# Altium footprint library SOIC127P940X597-16N.PcbLib: 1 footprints
Each footprint in its own frame and in the unit in brackets; x right, y up, seen from the top. Pads: shape width x height; smd on the part's side, far side on the other; paste and mask are expansions set on the pad; w line width, h text height; cw(c..) or ccw(c..) is an arc to the next point about the centre after c.
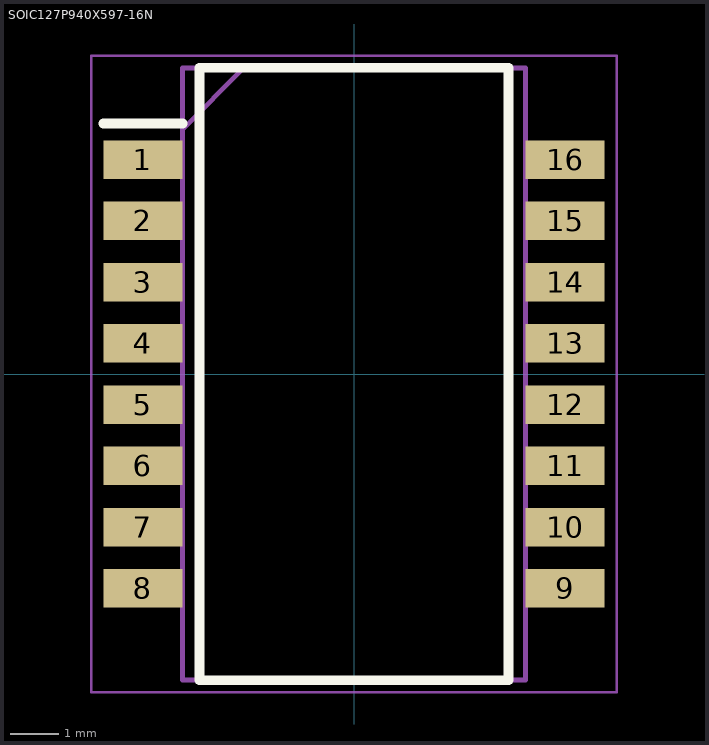
[diagram p0: the footprint, top view; thin cyan lines are the x and y axes]

## SOIC127P940X597-16N [mm]
pads (16):
  rect 1.645x0.8 smd: 1(-4.378,4.445) 2(-4.378,3.175) 3(-4.378,1.905) 4(-4.378,0.635) 5(-4.378,-0.635) 6(-4.378,-1.905) 7(-4.378,-3.175) 8(-4.378,-4.445) 9(4.378,-4.445) 10(4.378,-3.175) 11(4.378,-1.905) 12(4.378,-0.635) 13(4.378,0.635) 14(4.378,1.905) 15(4.378,3.175) 16(4.378,4.445)
Top Overlay:
  lines w0.2: -5.2,5.195 -3.555,5.195 ; -3.205,-6.35 3.205,-6.35 3.205,6.35 -3.205,6.35 -3.205,-6.35
Mechanical 15:
  lines w0.1: -3.555,5.08 -2.285,6.35 ; -3.555,-6.35 3.555,-6.35 3.555,6.35 -3.555,6.35 -3.555,-6.35
Mechanical 20:
  lines w0.05: -5.45,-6.6 5.45,-6.6 5.45,6.6 -5.45,6.6 -5.45,-6.6